# EAGLE library part 105313-**08 (library ORBiT-con-Molex-Nano-Fit)
Molex Nano-Fit Right-Angle Through-Hole Header, 1x8 pins Nano-Fit Power Connectors deliver both fully protected header terminals and a small package, while also offering keying options to ensure proper mating and terminal position assurance (TPA) to reduce terminal back-out. Power-application customers are faced with the decision of choosing between headers with exposed terminals, leaving connectors susceptible to damage, and large, fully-isolated headers that take up too much space. Compact Nano-Fit connectors provide design engineers fully protected header terminals in a small package. Another challenge that design engineers face is meeting the requirement to use multiple headers of the same circuit size on one PCB. This complicates the assembly due to possible mis-mating of a receptacle to the wrong header. Nano-Fit connectors offer different mechanical keying options, enabling customers to reduce the risk of cross mating while improving assembly speed with color-coding logic. Features: The smallest, fully-isolated headers in the market Deliver up to 69% PCB space savings Optional TPA (Terminal Position Assurance) retainer Ensures terminals are fully seated in the housing to reduce terminal back-out Retains terminals if main retention feature fails Positive-lock housing with anti-snag design Ensures mated connector assemblies will not accidentally disengage Provides an audible click while mating. Protects latch from damage due to wire snags Terminal interface with four points of contact Offers redundant, secondary current paths for long-term performance and reliability SMT version enables use of multi-layer boards by eliminating the need for through holes Opens up real estate on space-constricted PCBs Potentially reduces costs by enabling use of smaller PCBs with fewer drilled holes Terminals and headers available in gold and tin plating Delivers different cost options while meeting performance need Multiple mechanical keying and color-coded options Allow same-circuit, multiple-connector use with virtually no chance of cross mating Color coding provides visual indication of the proper mating connector — enabling faster assembly Ultra-low mate force terminal Reduces operator fatigue and improves assembly compliance for high-circuit applications Fully isolated terminals Protect against potential damage of the header and receptacle terminals during handling and mating Retention tang and contact rib Maintains stable contact SMT headers provide short electrical paths Deliver superior signal integrity performance Technical data: Nano-Fit Power Connectors <https://www.molex.com/molex/products/family?key=nanofit_power_connectors>
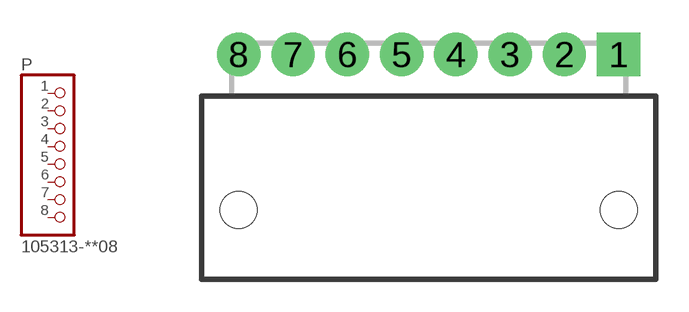
[diagram p2: symbol with the pads of 105313-**08; footprint 105313-**08]

Designator prefix P

## 105313-08 (MF: Molex)  [105313-**08]
1  1  pas
2  2  pas
3  3  pas
4  4  pas
5  5  pas
6  6  pas
7  7  pas
8  8  pas

## Footprint 105313-**08 (pad centres in mm)
Molex Nano-Fit Right-Angle Through-Hole Header, 1x8 pins
drill 1.2 pad 2 square: 1 8.75,0
drill 1.2 pad 2: 2 6.25,0; 3 3.75,0; 4 1.25,0; 5 -1.25,0; 6 -3.75,0; 7 -6.25,0; 8 -8.75,0
hole 1.7 at -8.75,-7.18
hole 1.7 at 8.75,-7.18